# Altium schematic symbol library ISO7740 SOIC.SchLib: 1 symbol
Pins are listed as number, name and electrical type; pins without a type are passive.

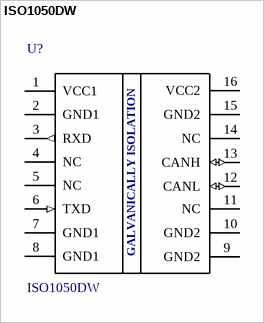
[diagram p0: symbol ISO1050DW]

## ISO1050DW
designator U?
CAN 1Mbps 3.3V/5V 16-Pin SOIC CAN 1Mbps 3.3V/5V 16-Pin SOIC; MF: Texas Instruments; Package: SOIC-16 Texas Instruments; MP: ISO1050DW; Price: None; Availability: Unavailable; SnapEDA_Link: https://www.snapeda.com/parts/ISO1050DW/Texas%20Instruments/view-part/?ref=snap; Value: *
footprint SOIC127P1032X265-16N
pins: 1 VCC1 (power), 2 GND1 (power), 3 RXD (out), 4 NC (power), 5 NC (power), 6 TXD (in), 7 GND1 (power), 8 GND1 (power), 9 GND2 (power), 10 GND2 (power), 11 NC (power), 12 CANL (io), 13 CANH (io), 14 NC (power), 15 GND2 (power), 16 VCC2 (power)
text: GALVANICALLY ISOLATION